# Altium schematic symbol library CIs.SchLib: 2 symbols
Pins are listed as number, name and electrical type; pins without a type are passive.

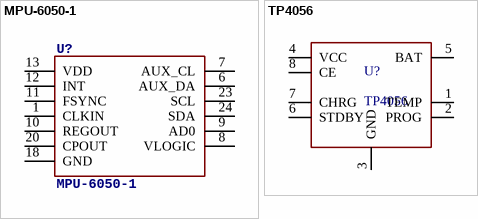
[diagram p0: symbols MPU-6050-1 to TP4056]

## MPU-6050-1
designator U?
ClassName: ACCEL
footprint QFN24-4MM
pins: 1 CLKIN, 6 AUX_DA, 7 AUX_CL, 8 VLOGIC, 9 AD0, 10 REGOUT, 11 FSYNC, 12 INT, 13 VDD, 18 GND, 20 CPOUT, 23 SCL, 24 SDA

## TP4056
designator U?
TP4056 1A Standalone Linear Li-lon Battery Charger with Thermal  Regulation in SOP-8
footprint SOP8
pins: 1 TEMP, 2 PROG, 3 GND, 4 VCC, 5 BAT, 6 STDBY, 7 CHRG, 8 CE